# EAGLE library part INA333 (library Signal)
Micro-Power (50mA), Zerø-Drift, Rail-to-Rail Out Instrumentation Amplifier
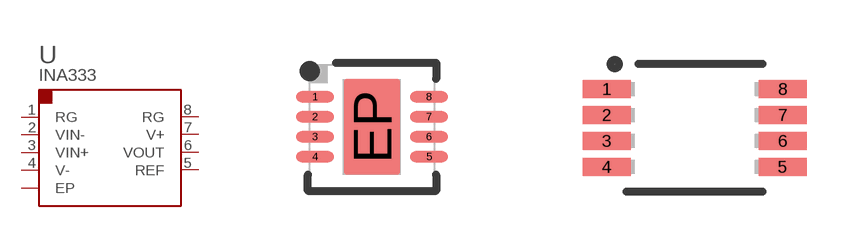
[diagram p2: symbol with the pads of WFDFN-8-EP; footprints WFDFN-8-EP, MSOP08]

Designator prefix U

## INA333AIDRG (PARTNO: 01-100488-00)  [WFDFN-8-EP]
1  RG  pas
2  VIN-  pas
3  VIN+  pas
4  V-  pwr
5  REF
6  VOUT  pas
7  V+  pwr
8  RG  pas
EP  EP  pas

## INA333AIDGK  [MSOP08]
1  RG  pas
2  VIN-  pas
3  VIN+  pas
4  V-  pwr
5  REF
6  VOUT  pas
7  V+  pwr
8  RG  pas

## Footprint WFDFN-8-EP (pad centres in mm)
smd 0.95 x 0.28: 1 -1.425,0.75; 2 -1.425,0.25; 3 -1.425,-0.25; 4 -1.425,-0.75; 5 1.425,-0.75; 6 1.425,-0.25; 7 1.425,0.25; 8 1.425,0.75
smd 1.4 x 2.4: EP 0,0

## Footprint MSOP08 (pad centres in mm)
8-Lead Mini Small Outline Package [MSOP] Changes: - 11/14/13 - Change tPlace to standardize look. Shorten pad length. CN
smd 1.2 x 0.45: 1 -2.2,0.975; 2 -2.2,0.325; 3 -2.2,-0.325; 4 -2.2,-0.975; 5 2.2,-0.975; 6 2.2,-0.325; 7 2.2,0.325; 8 2.2,0.975